# Altium schematic symbol library Warrison_Chips.SchLib: 6 symbols
Pins are listed as number, name and electrical type; pins without a type are passive.

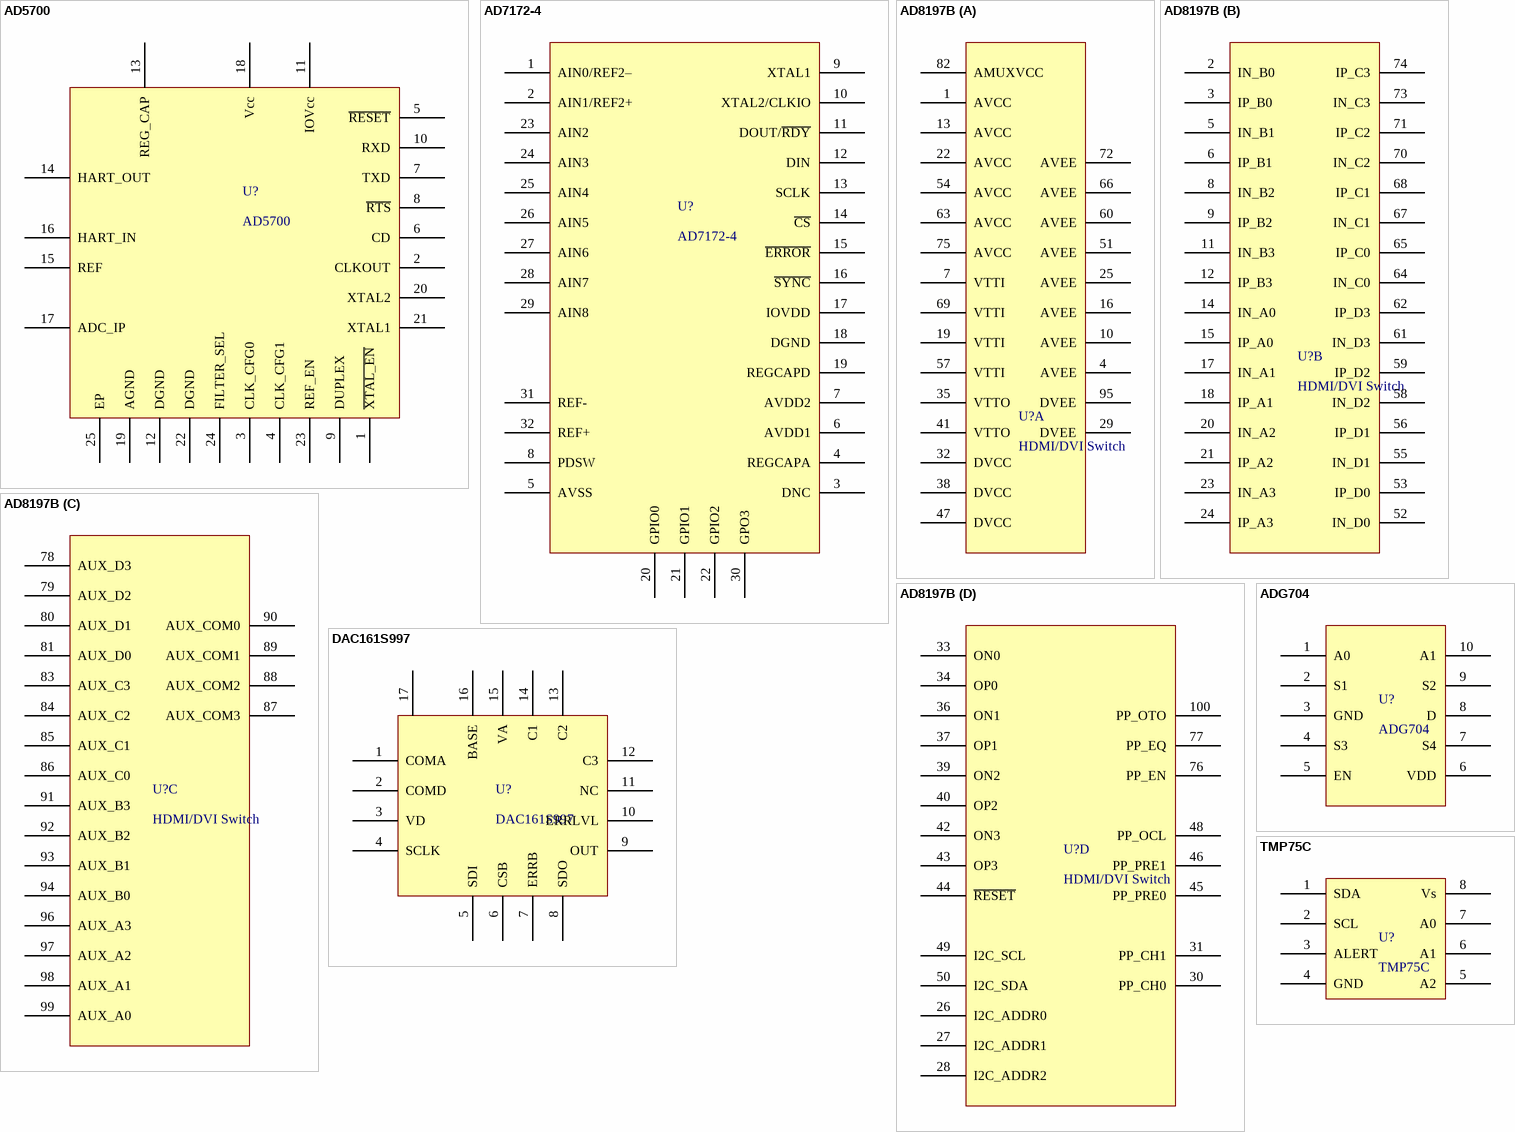
[diagram p0: symbols AD5700 to TMP75C]

## AD5700
designator U?
HART-compliant fully integrated FSK modem; Company: ADI
ibis AD5700 (Model Description)
footprint LFCSP_WQ_24
pins: 1 ~{XTAL_EN}, 2 CLKOUT, 3 CLK_CFG0, 4 CLK_CFG1, 5 ~{RESET}, 6 CD, 7 TXD, 8 ~{RTS}, 9 DUPLEX, 10 RXD, 11 IOVcc, 12 DGND, 13 REG_CAP, 14 HART_OUT, 15 REF, 16 HART_IN, 17 ADC_IP, 18 Vcc, 19 AGND, 20 XTAL2, 21 XTAL1, 22 DGND, 23 REF_EN, 24 FILTER_SEL, 25 EP

## AD7172-4
designator U?
Low Power, 24-Bit, 31.25 kSPS, Sigma-Delta  ADC with True Rail-to-Rail Buffers; Company: ADI
pins: 1 AIN0/REF2–, 2 AIN1/REF2+, 3 DNC, 4 REGCAPA, 5 AVSS, 6 AVDD1, 7 AVDD2, 8 PDSW, 9 XTAL1, 10 XTAL2/CLKIO, 11 DOUT/~{RDY}, 12 DIN, 13 SCLK, 14 ~{CS}, 15 ~{ERROR}, 16 ~{SYNC}, 17 IOVDD, 18 DGND, 19 REGCAPD, 20 GPIO0, 21 GPIO1, 22 GPIO2, 23 AIN2, 24 AIN3, 25 AIN4, 26 AIN5, 27 AIN6, 28 AIN7, 29 AIN8, 30 GPO3, 31 REF-, 32 REF+

## AD8197B
designator U?, comment HDMI/DVI Switch
4:1 HDMI/DVI Switch with Equalization; Company: ADI
part A pins: 1 AVCC, 4 AVEE, 7 VTTI, 10 AVEE, 13 AVCC, 16 AVEE, 19 VTTI, 22 AVCC, 25 AVEE, 29 DVEE, 32 DVCC, 35 VTTO, 38 DVCC, 41 VTTO, 47 DVCC, 51 AVEE, 54 AVCC, 57 VTTI, 60 AVEE, 63 AVCC, 66 AVEE, 69 VTTI, 72 AVEE, 75 AVCC, 82 AMUXVCC, 95 DVEE
part B pins: 2 IN_B0, 3 IP_B0, 5 IN_B1, 6 IP_B1, 8 IN_B2, 9 IP_B2, 11 IN_B3, 12 IP_B3, 14 IN_A0, 15 IP_A0, 17 IN_A1, 18 IP_A1, 20 IN_A2, 21 IP_A2, 23 IN_A3, 24 IP_A3, 52 IN_D0, 53 IP_D0, 55 IN_D1, 56 IP_D1, 58 IN_D2, 59 IP_D2, 61 IN_D3, 62 IP_D3, 64 IN_C0, 65 IP_C0, 67 IN_C1, 68 IP_C1, 70 IN_C2, 71 IP_C2, 73 IN_C3, 74 IP_C3
part C pins: 78 AUX_D3, 79 AUX_D2, 80 AUX_D1, 81 AUX_D0, 83 AUX_C3, 84 AUX_C2, 85 AUX_C1, 86 AUX_C0, 87 AUX_COM3, 88 AUX_COM2, 89 AUX_COM1, 90 AUX_COM0, 91 AUX_B3, 92 AUX_B2, 93 AUX_B1, 94 AUX_B0, 96 AUX_A3, 97 AUX_A2, 98 AUX_A1, 99 AUX_A0
part D pins: 26 I2C_ADDR0, 27 I2C_ADDR1, 28 I2C_ADDR2, 30 PP_CH0, 31 PP_CH1, 33 ON0, 34 OP0, 36 ON1, 37 OP1, 39 ON2, 40 OP2, 42 ON3, 43 OP3, 44 ~{RESET}, 45 PP_PRE0, 46 PP_PRE1, 48 PP_OCL, 49 I2C_SCL, 50 I2C_SDA, 76 PP_EN, 77 PP_EQ, 100 PP_OTO

## ADG704
designator U?
4-Channel Multiplexer; Company: ADI
pins: 1 A0, 2 S1, 3 GND, 4 S3, 5 EN, 6 VDD, 7 S4, 8 D, 9 S2, 10 A1

## DAC161S997
designator U?
DAC 4-20mA; Company: TI
footprint LFCSP_WQ_16
pins: 1 COMA, 2 COMD, 3 VD, 4 SCLK, 5 SDI, 6 CSB, 7 ERRB, 8 SDO, 9 OUT, 10 ERRLVL, 11 NC, 12 C3, 13 C2, 14 C1, 15 VA, 16 BASE, 17 DAP

## TMP75C
designator U?
Digital temperature sensor chip, The lowest power supply 1.8v, Operation temp: -55 to 125; Company: TI
pins: 1 SDA, 2 SCL, 3 ALERT, 4 GND, 5 A2, 6 A1, 7 A0, 8 Vs